# Altium footprint library mycomponents.PcbLib: 22 footprints (part 2 of 2)
Each footprint in its own frame and in the unit in brackets; x right, y up, seen from the top. Pads: shape width x height; smd on the part's side, far side on the other; paste and mask are expansions set on the pad; w line width, h text height; cw(c..) or ccw(c..) is an arc to the next point about the centre after c.
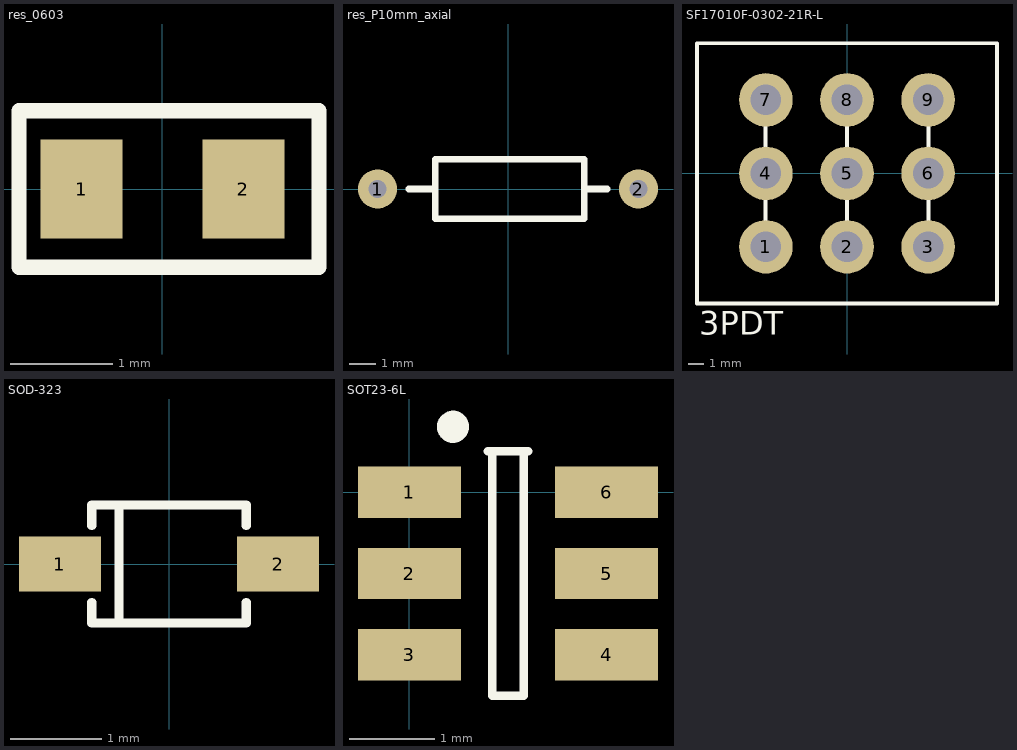
[diagram p1: the footprints below, top view; thin cyan lines are the x and y axes]

## res_0603 [mm]
pads (2):
  rect 0.8x0.965 smd: 1(-0.787,0) 2(0.788,0)
Top Overlay:
  lines w0.15: -1.397,-0.762 1.524,-0.762 1.524,0.762 -1.397,0.762 -1.397,-0.762
3D body "R0603.STEP": height 0.47, standoff 0, extent -1.303,-0.668 1.303,0.668

## res_P10mm_axial [mm]
pads (2):
  round 1.5 hole 0.7: 1(-5,0) 2(5,0)
Top Overlay:
  lines w0.254: -3.81,0 -2.794,0 ; 2.921,0 3.81,0 ; -2.794,0 -2.794,1.143 2.921,1.143 2.921,-1.143 -2.794,-1.143 -2.794,0
3D body "R10K.SLDPRT": height 2.63, standoff -2.62, extent -5.25,-1.25 5.25,1.26

## SF17010F-0302-21R-L [mm] "Alpha 3PDT Footswitch"
height 16.7
pads (9):
  round 3.5 hole 2: 1(-5.3,-4.8) 2(0,-4.8) 3(5.3,-4.8) 4(-5.3,0) 5(0,0) 6(5.3,0) 7(-5.3,4.8) 8(0,4.8) 9(5.3,4.8)
Top Overlay:
  lines w0.254: -5.334,-3.048 -5.334,-1.778 ; -5.334,1.778 -5.334,3.048 ; 0,-3.048 0,-1.778 ; 0,1.778 0,3.048 ; 5.334,-3.048 5.334,-1.778 ; 5.334,1.778 5.334,3.048 ; -9.8,-8.5 9.8,-8.5 9.8,8.5 -9.8,8.5 -9.8,-8.5
  text "3PDT" at -9.652,-10.541 h1.52
3D body "SF17010F-0302-21R-L.step": height 38.2, standoff -3, extent -9.8,-8.5 9.8,8.5

## SOD-323 [mm]
pads (2):
  rect 0.9x0.6 smd: 1(-1.2,0) 2(1.2,0)
Top Overlay:
  lines w0.1: -0.85,-0.425 -0.85,-0.65 0.85,-0.65 0.85,-0.425 ; -0.85,0.425 -0.85,0.65 0.85,0.65 0.85,0.425 ; -0.55,-0.65 -0.55,0.65
3D body "User Library-SOD323F.step": height 0.75, standoff -0.01, extent -1.4,-0.675 1.4,0.675

## SOD-523 [mm]

## SOT23-6L [mm]
pads (6):
  rect 1.2x0.6 smd: 1(0,0) 2(0,-0.95) 3(0,-1.9) 4(2.3,-1.9) 5(2.3,-0.95) 6(2.3,0)
Top Overlay:
  circle w0.254: c0.508,0.762 r0.06
  lines w0.1: 0.913,0.475 1.335,0.475 1.335,-2.375 0.965,-2.375 0.965,0.475 1.388,0.475
3D body "SOT23-6L_STM.step": height 1.45, standoff 0, extent -0.299,-2.474 2.699,0.574